# Altium schematic symbol library Linear - Amplifiers - Instrumentation, OP Amps, Buffer Amps.SchLib: 10 symbols
Pins are listed as number, name and electrical type; pins without a type are passive.

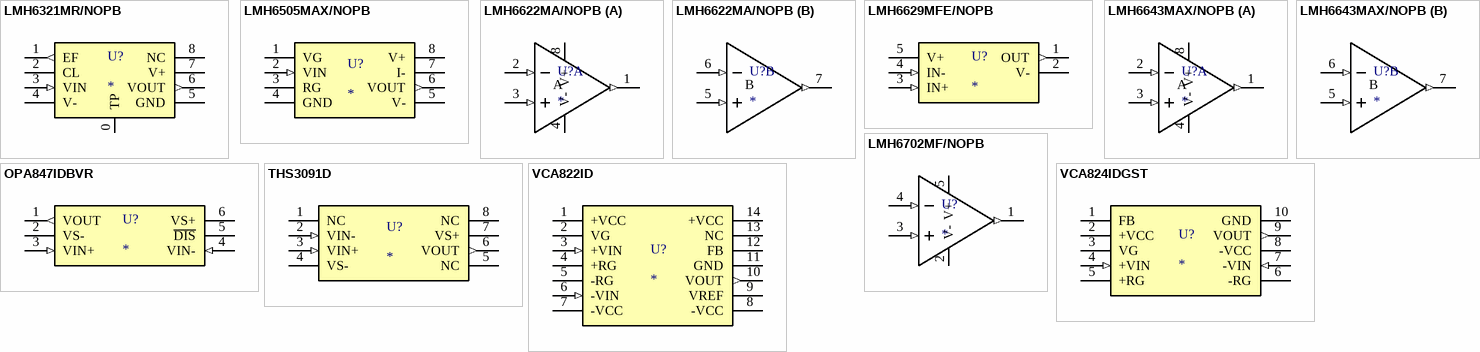
[diagram p0: symbols LMH6321MR/NOPB to VCA824IDGST]

## LMH6321MR/NOPB
designator U?
IC BUFFER 1 CIRCUIT 8SOPWRPAD; Supplier 1: Digi-Key; Supplier 2: Farnell; Supplier 3: Mouser; Supplier Part Number 1: LMH6321MR/NOPB-ND; Supplier Part Number 2: 3116735; Supplier Part Number 3: 926-LMH6321MR/NOPB
footprint TI_8-SO-PowerPad
pins: 0 TP, 1 EF (out), 2 CL (power), 3 VIN (in), 4 V-, 5 GND (power), 6 VOUT (out), 7 V+, 8 NC

## LMH6505MAX/NOPB
designator U?
IC VARIABLE GAIN 1 CIRCUIT 8SOIC; Supplier 1: Digi-Key; Supplier Part Number 1: 296-51332-1-ND
footprint TI_8-SOIC
pins: 1 VG, 2 VIN (in), 3 RG, 4 GND (power), 5 V- (power), 6 VOUT (out), 7 I-, 8 V+ (power)

## LMH6622MA/NOPB
designator U?
IC OPAMP VFB 2 CIRCUIT 8SOIC; Supplier 1: Digi-Key; Supplier 2: Farnell; Supplier 3: Mouser; Supplier Part Number 1: LMH6622MA/NOPB-ND; Supplier Part Number 2: 3117174; Supplier Part Number 3: 926-LMH6622MA/NOPB
footprint TI_8-SOIC
part A pins: 1 OUT (out), 2 IN- (in), 3 IN+ (in), 4 V-, 8 V+
part B pins: 5 IN+ (in), 6 IN- (in), 7 OUT (out)
part A text: A
part B text: B

## LMH6629MFE/NOPB
designator U?
IC OPAMP VFB 1 CIRCUIT SOT23-5; Supplier 1: Digi-Key; Supplier 2: Farnell; Supplier 3: Mouser; Supplier Part Number 1: LMH6629MFE/NOPBCT-ND; Supplier Part Number 2: 2463674; Supplier Part Number 3: 926-LMH6629MFE/NOPB
footprint TI_SOT-23-5 (SOT-23 - 1.45 mm max height)
pins: 1 OUT (out), 2 V- (power), 3 IN+ (in), 4 IN- (in), 5 V+ (power)

## LMH6643MAX/NOPB
designator U?
IC OPAMP VFB 2 CIRCUIT 8SOIC; Supplier 1: Digi-Key; Supplier 2: Farnell; Supplier 3: Mouser; Supplier Part Number 1: LMH6643MAX/NOPBCT-ND; Supplier Part Number 2: 3004719; Supplier Part Number 3: 926-LMH6643MAX/NOPB
footprint TI_8-SOIC
part A pins: 1 OUT (out), 2 IN- (in), 3 IN+ (in), 4 V-, 8 V+
part B pins: 5 IN+ (in), 6 IN- (in), 7 OUT (out)
part A text: A
part B text: B

## LMH6702MF/NOPB
designator U?
IC OPAMP CFA 1 CIRCUIT SOT23-5; Supplier 1: Digi-Key; Supplier 2: Farnell; Supplier 3: Mouser; Supplier Part Number 1: LMH6702MF/NOPBCT-ND; Supplier Part Number 2: 3117195; Supplier Part Number 3: 926-LMH6702MF/NOPB
footprint TI_SOT-23-5 (SOT-23 - 1.45 mm max height)
pins: 1 OUT (out), 2 V- (power), 3 IN+ (in), 4 IN- (in), 5 V+ (power)

## OPA847IDBVR
designator U?
IC OPAMP VFB 1 CIRCUIT SOT23-6; Supplier 1: Digi-Key; Supplier 2: Mouser; Supplier Part Number 1: 296-46172-1-ND; Supplier Part Number 2: 595-OPA847IDBVR
footprint TI_SOT-23-6
pins: 1 VOUT (out), 2 VS-, 3 VIN+ (in), 4 VIN- (in), 5 ~{DIS}, 6 VS+ (power)

## THS3091D
designator U?
IC OPAMP CFA 1 CIRCUIT 8SOIC; Manufacturer: Texas Instruments; Amplifier Type: Current Feedback; Slew Rate: 7300 V/µs; Current - Supply: 9.5 mA; Voltage - Supply, Single/Dual (±): 10V ~ 30V, ±5V ~ 15V; Number of Circuits: 1; -3db Bandwidth: 235 MHz; Current - Input Bias: 4 µA; Voltage - Input Offset: 900 µV; Current - Output / Channel: 280 mA; Base Product Number: THS3091; Series: -; Package: Tube; Output Type: -; Operating Temperature: -40°C ~ 85°C; Mounting Type: Surface Mount; Package / Case: 8-SOIC (0.154", 3.90mm Width); Supplier Device Package: 8-SOIC; Ozdisan Link: -; Digikey Link: https://www.digikey.com/en/products/detail/texas-instruments/THS3091D/610214
footprint TI_8-SOIC
pins: 1 NC, 2 VIN- (in), 3 VIN+ (in), 4 VS- (power), 5 NC, 6 VOUT (out), 7 VS+ (power), 8 NC

## VCA822ID
designator U?
IC OPAMP VGA 1 CIRCUIT 14SOIC; Supplier 1: Digi-Key; Supplier 2: Farnell; Supplier 3: Mouser; Supplier Part Number 1: 296-22682-5-ND; Supplier Part Number 2: 3118199; Supplier Part Number 3: 595-VCA822ID
footprint TI_14-SOIC
pins: 1 +VCC (power), 2 VG, 3 +VIN (in), 4 +RG, 5 -RG, 6 -VIN (in), 7 -VCC (power), 8 -VCC (power), 9 VREF, 10 VOUT (out), 11 GND (power), 12 FB, 13 NC, 14 +VCC (power)

## VCA824IDGST
designator U?
IC OPAMP VGA 1 CIRCUIT 10VSSOP; Supplier 1: Digi-Key; Supplier 2: Mouser; Supplier Part Number 1: 296-VCA824IDGSTCT-ND; Supplier Part Number 2: 595-VCA824IDGST
footprint TI_10-VSSOP
pins: 1 FB, 2 +VCC (power), 3 VG, 4 +VIN (in), 5 +RG, 6 -RG, 7 -VIN (in), 8 -VCC (power), 9 VOUT (out), 10 GND (power)